# EAGLE library part AT42QT1010-TSHR (library touch_momentary_AT42QT1010)
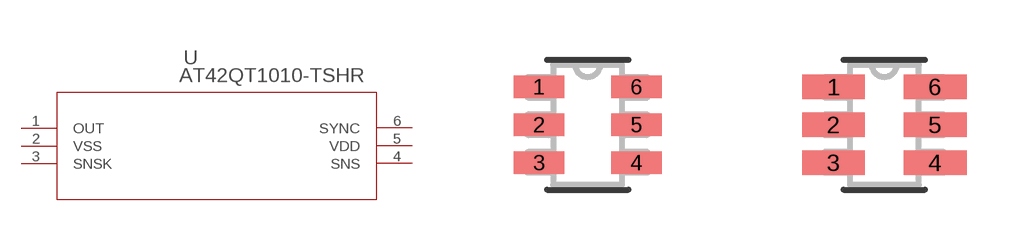
[diagram p0: symbol with the pads of 6ST1; footprints 6ST1, 6ST1-M]

Designator prefix U

## AT42QT1010-TSHR (MANUFACTURER_PART_NUMBER: AT42QT1010TSHR; VENDOR: Atmel)  [6ST1]
1  OUT  out
2  VSS  pwr
3  SNSK
4  SNS
5  VDD  pwr
6  SYNC  in

## AT42QT1010-TSHR6ST1-M (MANUFACTURER_PART_NUMBER: AT42QT1010TSHR; VENDOR: Atmel)  [6ST1-M]
Pads as for 6ST1

## AT42QT1010-TSHR6ST1-L (MANUFACTURER_PART_NUMBER: AT42QT1010TSHR; VENDOR: Atmel)  [6ST1-L]
Pads as for 6ST1

## Footprint 6ST1 (pad centres in mm)
smd 1.27 x 0.559: 1 -1.219,0.95; 2 -1.219,0; 3 -1.219,-0.95; 4 1.219,-0.95; 5 1.219,0; 6 1.219,0.95

## Footprint 6ST1-M (pad centres in mm)
smd 1.575 x 0.61: 1 -1.27,0.95; 2 -1.27,0; 3 -1.27,-0.95; 4 1.27,-0.95; 5 1.27,0; 6 1.27,0.95

## Footprint 6ST1-L (pad centres in mm)
smd 0.965 x 0.508: 1 -1.168,0.95; 2 -1.168,0; 3 -1.168,-0.95; 4 1.168,-0.95; 5 1.168,0; 6 1.168,0.95